# Altium schematic symbol library Trofazni_invertor_SchLib.SchLib: 17 symbols
Pins are listed as number, name and electrical type; pins without a type are passive.

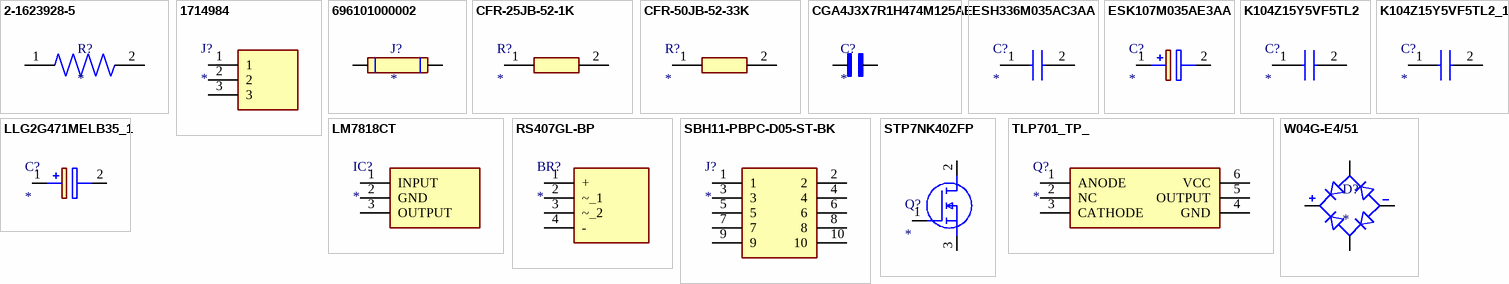
[diagram p0: symbols 2-1623928-5 to W04G-E4/51]

## 2-1623928-5
designator R?  (value not drawn)
470 Ohms Â±5% 0.25W, 1/4W Through Hole Resistor Axial - Carbon Film; Tolerance: 5%; Resistance: 470; Voltage_Rating: 200 V; MF: TE Connectivity; Power_Rating: .25 W; Value: *; SnapEDA_Link: https://www.snapeda.com/parts/2-1623928-5/TE+Connectivity/view-part/?ref=snap; EU_RoHS_Compliance: Compliant; Availability: In Stock; Price: None; Package: None; Check_prices: https://www.snapeda.com/parts/2-1623928-5/TE+Connectivity/view-part/?ref=eda; MP: 2-1623928-5; Comment_1: *
footprint 17
pins: 1, 2

## 1714984
designator J?
Connector; Manufacturer_Name: Phoenix Contact; Manufacturer_Part_Number: 1714984; Datasheet Link: https://www.phoenixcontact.com/online/portal/us/?uri=pxc-oc-itemdetail:pid=1714984&library=usen&pcck=P-11-01-05&tab=1&selectedCategory=ALL; Height: 21.7mm; Mouser Part Number: 651-1714984; Mouser Price/Stock: https://www.mouser.co.uk/ProductDetail/Phoenix-Contact/1714984?qs=cyzODkzcbwBLTTPxtXl6gQ%3D%3D; Arrow Part Number: 1714984; Arrow Price/Stock: https://www.arrow.com/en/products/1714984/phoenix-contact?region=nac
footprint 3
pins: 1, 2, 3

## 696101000002
designator J?
Fuse Block 10 A 250V 1 Circuit Cartridge Through Hole; MP: 696101000002; MF: Wurth Elektronik; Value: *; SnapEDA_Link: https://www.snapeda.com/parts/696101000002/Wurth+Elektronik/view-part/?ref=snap; Purchase-URL: https://pricing.snapeda.com/search/part/696101000002/?ref=eda; Check_prices: https://www.snapeda.com/parts/696101000002/Wurth+Elektronik/view-part/?ref=eda; Availability: In Stock; Price: None; Package: None
footprint 696101000002
pins: 1, 2

## CFR-25JB-52-1K
designator R?
Resistor; Manufacturer_Name: KEMET; Manufacturer_Part_Number: CFR-25JB-52-1K; Datasheet Link: http://www.mouser.com/datasheet/2/447/Yageo LR_CFR_2013-595289.pdf; Mouser Part Number: N/A; Mouser Price/Stock: https://www.mouser.co.uk/ProductDetail/Yageo/CFR-25JB-52-1K/?qs=oypCK0zG326Dzm6bUFS4DQ%3D%3D; Arrow Part Number: CFR-25JB-52-1K; Arrow Price/Stock: https://www.arrow.com/en/products/cfr-25jb-52-1k/yageo
footprint RESAD1590W60L630D240
pins: 1, 2

## CFR-50JB-52-33K
designator R?
Resistor; Manufacturer_Name: KEMET; Manufacturer_Part_Number: CFR-50JB-52-33K; Datasheet Link: https://datasheet.datasheetarchive.com/originals/distributors/Datasheets_SAMA/cf5c7c7b14e59499e9125003e6ee5ce2.pdf; Mouser Part Number: 603-CFR-50JB-52-33K; Mouser Price/Stock: https://www.mouser.co.uk/ProductDetail/YAGEO/CFR-50JB-52-33K?qs=oypCK0zG3245HXmmN0J37w%3D%3D; Arrow Part Number: CFR-50JB-52-33K; Arrow Price/Stock: https://www.arrow.com/en/products/cfr-50jb-52-33k/yageo?region=nac
footprint 18
pins: 1, 2

## CGA4J3X7R1H474M125AE
designator C?
Multilayer Ceramic Capacitor, CGA Series, 0.47 - F, - 20%, X7R, 50 V, 0805 [2012 Metric]; MF: TDK; MP: CGA4J3X7R1H474M125AE; SnapEDA_Link: https://www.snapeda.com/parts/CGA4J3X7R1H474M125AE/TDK/view-part/?ref=snap; Package: 2012 TDK; Value: *; Check_prices: https://www.snapeda.com/parts/CGA4J3X7R1H474M125AE/TDK/view-part/?ref=eda
footprint 7
pins: 1, 2

## ESH336M035AC3AA
designator C?
Capacitor; Manufacturer_Name: KEMET; Manufacturer_Part_Number: ESH336M035AC3AA; Datasheet Link: https://content.kemet.com/datasheets/KEM_A4005_ESH.pdf; Height: 12.5mm; Mouser Part Number: 80-ESH336M035AC3AA; Mouser Price/Stock: https://www.mouser.co.uk/ProductDetail/KEMET/ESH336M035AC3AA?qs=w9hhVRgtvflENp8Xu64Lcw%3D%3D; Arrow Part Number: ESH336M035AC3AA; Arrow Price/Stock: https://www.arrow.com/en/products/esh336m035ac3aa/kemet-corporation?region=nac
footprint CAPPRD200W50D500H1250
footprint 21
pins: 1 +, 2 -

## ESK107M035AE3AA
designator C?
Capacitor Polarised; Manufacturer_Name: KEMET; Manufacturer_Part_Number: ESK107M035AE3AA; Datasheet Link: https://content.kemet.com/datasheets/KEM_A4004_ESK.pdf; Height: 12.5mm; Mouser Part Number: 80-ESK107M035AE3AA; Mouser Price/Stock: https://www.mouser.co.uk/ProductDetail/KEMET/ESK107M035AE3AA?qs=907G%252Bm7SbTtznNeWXOh3WA%3D%3D; Arrow Part Number: ESK107M035AE3AA; Arrow Price/Stock: https://www.arrow.com/en/products/esk107m035ae3aa/kemet-corporation
footprint 20
pins: 1 +, 2 -

## K104Z15Y5VF5TL2
designator C?
Capacitor; Manufacturer_Name: Vishay; Manufacturer_Part_Number: K104Z15Y5VF5TL2; Datasheet Link: http://www.mouser.com/ds/2/427/mkseries-205465.pdf; Mouser Part Number: 594-K104Z15Y5VF5TL2; Mouser Price/Stock: https://www.mouser.co.uk/ProductDetail/Vishay-BC-Components/K104Z15Y5VF5TL2?qs=8fb2TFeI5qG%252BXNQE4bq55w%3D%3D; Arrow Part Number: K104Z15Y5VF5TL2; Arrow Price/Stock: https://www.arrow.com/en/products/k104z15y5vf5tl2/vishay?region=nac
footprint 8
pins: 1 +, 2 -

## K104Z15Y5VF5TL2_1
designator C?
Capacitor; Manufacturer_Name: Vishay; Manufacturer_Part_Number: K104Z15Y5VF5TL2; Datasheet Link: http://www.mouser.com/ds/2/427/mkseries-205465.pdf; Mouser Part Number: 594-K104Z15Y5VF5TL2; Mouser Price/Stock: https://www.mouser.co.uk/ProductDetail/Vishay-BC-Components/K104Z15Y5VF5TL2?qs=8fb2TFeI5qG%252BXNQE4bq55w%3D%3D; Arrow Part Number: K104Z15Y5VF5TL2; Arrow Price/Stock: https://www.arrow.com/en/products/k104z15y5vf5tl2/vishay?region=nac
footprint 8
pins: 1 +, 2 -

## LLG2G471MELB35_1
designator C?
Capacitor Polarised; Manufacturer_Name: Nichicon; Manufacturer_Part_Number: LLG2G471MELB35; Datasheet Link: http://nichicon-us.com/english/products/pdfs/e-llg.pdf; Height: 37mm; Mouser Part Number: 647-LLG2G471MELB35; Mouser Price/Stock: https://www.mouser.co.uk/ProductDetail/Nichicon/LLG2G471MELB35?qs=4lWw5qRttGISEzjV5TZARQ%3D%3D; Arrow Part Number: LLG2G471MELB35; Arrow Price/Stock: https://www.arrow.com/en/products/llg2g471melb35/nichicon?region=europe
footprint 6
pins: 1 +, 2 -

## LM7818CT
designator IC?
Integrated Circuit; Manufacturer_Name: onsemi; Manufacturer_Part_Number: LM7818CT; Datasheet Link: https://componentsearchengine.com/Datasheets/2/LM7818CT.pdf; Height: 4.7mm; Mouser Part Number: 512-LM7818CT; Mouser Price/Stock: https://www.mouser.co.uk/ProductDetail/ON-Semiconductor-Fairchild/LM7818CT?qs=VOMQJJE%252BBNlJ%252BsI8cCErUA%3D%3D; Arrow Part Number: LM7818CT; Arrow Price/Stock: https://www.arrow.com/en/products/lm7818ct/on-semiconductor
footprint 9
pins: 1 INPUT, 2 GND, 3 OUTPUT

## RS407GL-BP
designator BR?
Bridge Rectifier; Manufacturer_Name: MCC; Manufacturer_Part_Number: RS407GL-BP; Datasheet Link: https://www.mccsemi.com/pdf/Products/RS401GL-RS407GL(RS-4L).pdf; Height: 16.3mm; Mouser Part Number: 833-RS407GL-BP; Mouser Price/Stock: https://www.mouser.co.uk/ProductDetail/Micro-Commercial-Components-MCC/RS407GL-BP?qs=SdqRYZZ9IxAW3J9C4U9fBg%3D%3D; Arrow Part Number: RS407GL-BP; Arrow Price/Stock: https://www.arrow.com/en/products/rs407gl-bp/micro-commercial-components?region=nac
footprint 10
pins: 1 +, 2 ~_1, 3 ~_2, 4 -

## SBH11-PBPC-D05-ST-BK
designator J?
Connector; Manufacturer_Name: Sullins; Manufacturer_Part_Number: SBH11-PBPC-D05-ST-BK; Datasheet Link: https://s3.amazonaws.com/catalogspreads-pdf/PAGE122%20.100%20SBH11%20SERIES%20MALE%20BOX%20HDR%20ST%20RA%20SMT.pdf; Height: 8.8mm
footprint 4
pins: 1, 2, 3, 4, 5, 6, 7, 8, 9, 10

## STP7NK40ZFP
designator Q?
MOSFET (N-Channel); Manufacturer_Name: STMicroelectronics; Manufacturer_Part_Number: STP7NK40ZFP; Datasheet Link: http://www.st.com/web/en/resource/technical/document/datasheet/CD00003040.pdf; Height: 4.6mm; Mouser Part Number: 511-STP7NK40ZFP; Mouser Price/Stock: https://www.mouser.com/Search/Refine.aspx?Keyword=511-STP7NK40ZFP; Arrow Part Number: STP7NK40ZFP; Arrow Price/Stock: https://www.arrow.com/en/products/stp7nk40zfp/stmicroelectronics
footprint 2
pins: 1 G, 2 D, 3 S

## TLP701_TP_
designator Q?
Phototransistor; Manufacturer_Name: Toshiba; Manufacturer_Part_Number: TLP701(TP); Datasheet Link: https://toshiba.semicon-storage.com/info/docget.jsp?did=1642&prodName=TLP701; Height: 4.25mm
footprint 1
pins: 1 ANODE, 2 NC, 3 CATHODE, 4 GND, 5 OUTPUT, 6 VCC

## W04G-E4/51
designator D?
Bridge Rectifier Single Phase Standard 400 V Through Hole WOG; MF: Vishay; MP: W04G-E4/51; Value: *; SnapEDA_Link: https://www.snapeda.com/parts/W04G-E4/51/Vishay+Semiconductor+Diodes+Division/view-part/?ref=snap; Purchase-URL: https://pricing.snapeda.com/search/part/W04G-E4/51/?ref=eda; Availability: In Stock; Price: None; Package: WOG-4 Vishay Semiconductor Diodes Division; Check_prices: https://www.snapeda.com/parts/W04G-E4/51/Vishay+Semiconductor+Diodes+Division/view-part/?ref=eda
footprint 11
pins: AC1, AC2, NEG, POS